# Altium footprint library W10M.PcbLib: 1 footprints
Each footprint in its own frame and in the unit in brackets; x right, y up, seen from the top. Pads: shape width x height; smd on the part's side, far side on the other; paste and mask are expansions set on the pad; w line width, h text height; cw(c..) or ccw(c..) is an arc to the next point about the centre after c.
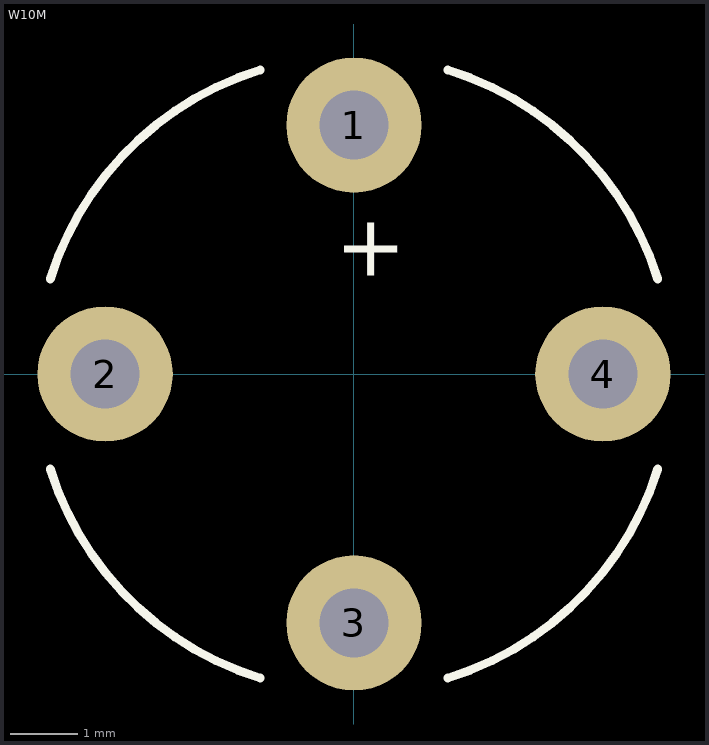
[diagram p0: the footprint, top view; thin cyan lines are the x and y axes]

## W10M [mm]
pads (4):
  round 2 hole 1.016: 1(0,3.683) 2(-3.677,0.006) 3(0,-3.671) 4(3.677,0.006)
Top Overlay:
  lines w0.127: -4.487,-1.394 ccw(c0,0.006) -1.386,-4.485 ; -4.487,1.406 cw(c0,0.006) -1.386,4.497 ; 1.386,-4.485 ccw(c0,0.006) 4.487,-1.394 ; 1.386,4.497 cw(c0,0.006) 4.487,1.406
  text "+" at -0.279,1.458 h0.91